# Altium schematic symbol library 10018783-10010TLF.SchLib: 1 symbol
Pins are listed as number, name and electrical type; pins without a type are passive.

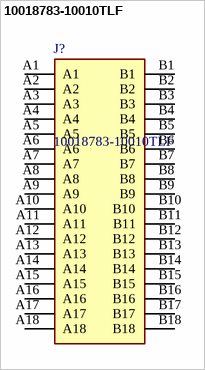
[diagram p0: symbol 10018783-10010TLF]

## 10018783-10010TLF
designator J?
PCI Express<sup></sup> GEN 3 Card Edge, Storage and Server Connector, Vertical, Through Hole, x1, 36 Positions, 1.00mm (0.039in) Pitch; Manufacturer_Name: Amphenol Communications Solutions; Geometry.Height: 11.25mm; Manufacturer_Part_Number: 10018783-10010TLF; Mouser Part Number: *; Mouser Price/Stock: *; Arrow Part Number: *; Arrow Price/Stock: *; Datasheet Link: https://cdn.amphenol-cs.com/media/wysiwyg/files/drawing/10018783.pdf
footprint 1001878310010TLF
pins: A1, A2, A3, A4, A5, A6, A7, A8, A9, A10, A11, A12, A13, A14, A15, A16, A17, A18, B1, B2, B3, B4, B5, B6, B7, B8, B9, B10, B11, B12, B13, B14, B15, B16, B17, B18